# Altium footprint library DSC1001.PcbLib: 1 footprints
Each footprint in its own frame and in the unit in brackets; x right, y up, seen from the top. Pads: shape width x height; smd on the part's side, far side on the other; paste and mask are expansions set on the pad; w line width, h text height; cw(c..) or ccw(c..) is an arc to the next point about the centre after c.
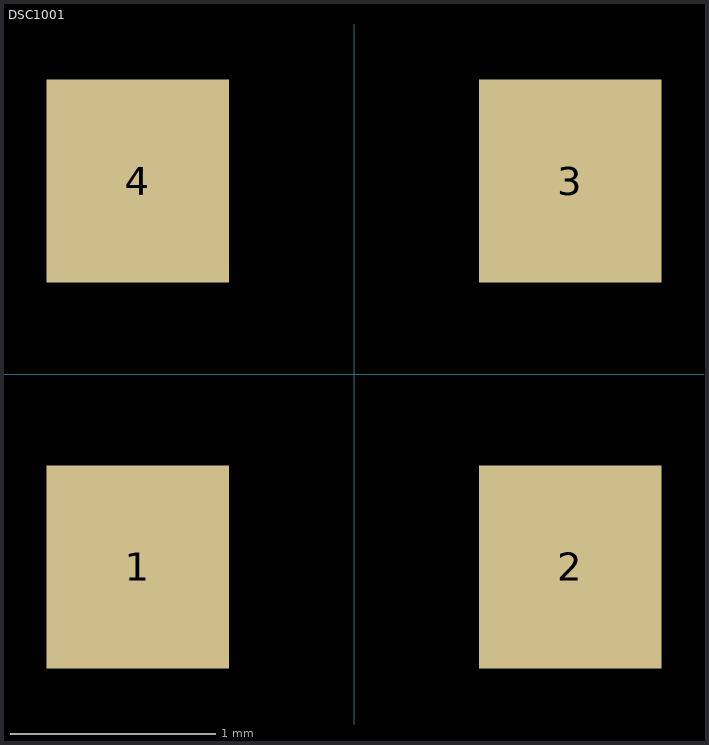
[diagram p0: the footprint, top view; thin cyan lines are the x and y axes]

## DSC1001 [mil]
pads (4):
  rect 35x39 smd: 1(-41.5,-37) 2(41.5,-37) 3(41.5,37) 4(-41.5,37)